# EAGLE library part RK0971221Z05 (library Passives)
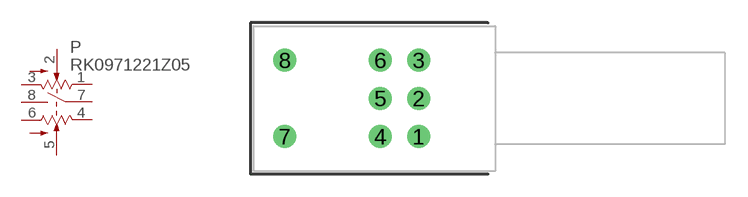
[diagram p16: symbol with the pads of RK0971221Z05; footprint RK0971221Z05]

Designator prefix P

## RK0971221Z05  [RK0971221Z05]
1  1  pas
2  2  pas
3  3  pas
4  4  pas
5  5  pas
6  6  pas
7  7
8  8

## Footprint RK0971221Z05 (pad centres in mm)
drill 1: 1 -5,-2.5; 2 -5,0; 3 -5,2.5; 4 -7.5,-2.5; 5 -7.5,0; 6 -7.5,2.5; 7 -13.75,-2.5; 8 -13.75,2.5